# Altium footprint library TAS-E18V_PCB_Footprint_AD_20200608.PcbLib: 1 footprints
Each footprint in its own frame and in the unit in brackets; x right, y up, seen from the top. Pads: shape width x height; smd on the part's side, far side on the other; paste and mask are expansions set on the pad; w line width, h text height; cw(c..) or ccw(c..) is an arc to the next point about the centre after c.
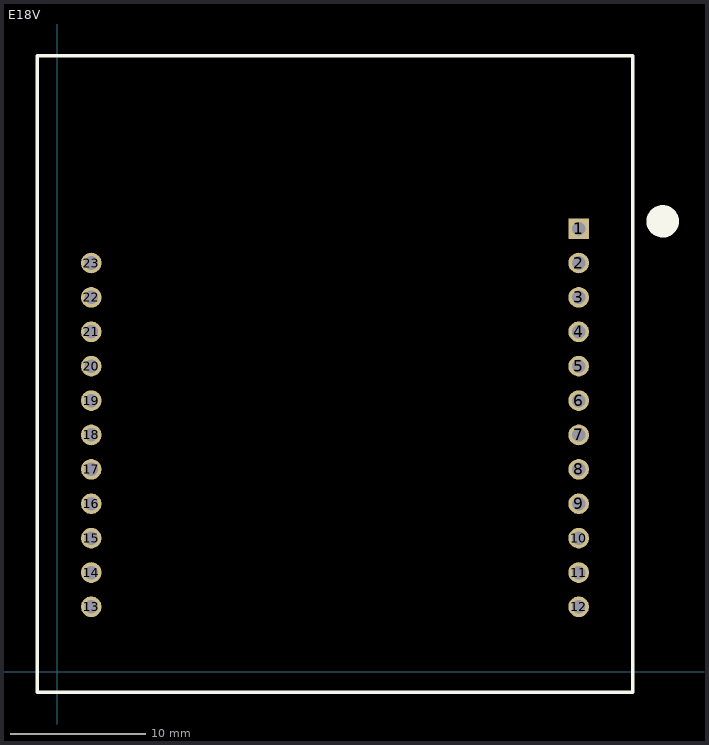
[diagram p0: the footprint, top view; thin cyan lines are the x and y axes]

## E18V [mil]
pads (23):
  rect 60x60 hole 39.37: 1(1515.67,1288.87)
  round 60 hole 39.37: 2(1515.67,1188.87) 3(1515.67,1088.87) 4(1515.67,988.87) 5(1515.67,888.87) 6(1515.67,788.87) 7(1515.67,688.87) 8(1515.67,588.87) 9(1515.67,488.87) 10(1515.67,388.87) 11(1515.67,288.87) 12(1515.67,189.26) 13(98.34,189.25) 14(98.34,288.87) 15(98.34,388.87) 16(98.34,488.87) 17(98.34,588.87) 18(98.34,688.87) 19(98.34,788.87) 20(98.34,888.87) 21(98.34,988.87) 22(98.34,1088.87) 23(98.34,1188.87)
Top Overlay:
  circle w47.24: c1760,1310 r23.62
  lines w10: -59.06,-59.06 1673.23,-59.06 1673.23,1791.34 -59.06,1791.34 -59.06,-59.06